# Altium schematic symbol library Routes.SchLib: 5 symbols
Pins are listed as number, name and electrical type; pins without a type are passive.

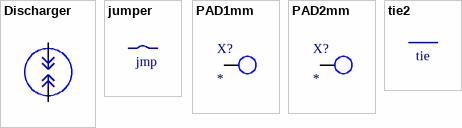
[diagram p0: symbols Discharger to tie2]

## Discharger
designator T?  (value not drawn)  (net tie, no BOM)
Discharger
footprint РОЗРЯДНИК_02ММ
pins: 1, 2

## jumper
designator X?, comment jmp  (net tie, no BOM)
footprint jumper
pins: 1, 2

## PAD1mm
designator X?  (net tie, no BOM)
footprint КОНТАКТ
pins: 1

## PAD2mm
designator X?  (net tie, no BOM)
footprint КОНТАКТ
pins: 1

## tie2
designator X?, comment tie  (net tie, no BOM)
footprint tie
pins: 1, 2